# Altium integrated library TI Amplifiers and Linear Operational Amplifier Precision Amplifier Part Two.IntLib: 2300 symbols (part 40 of 81)
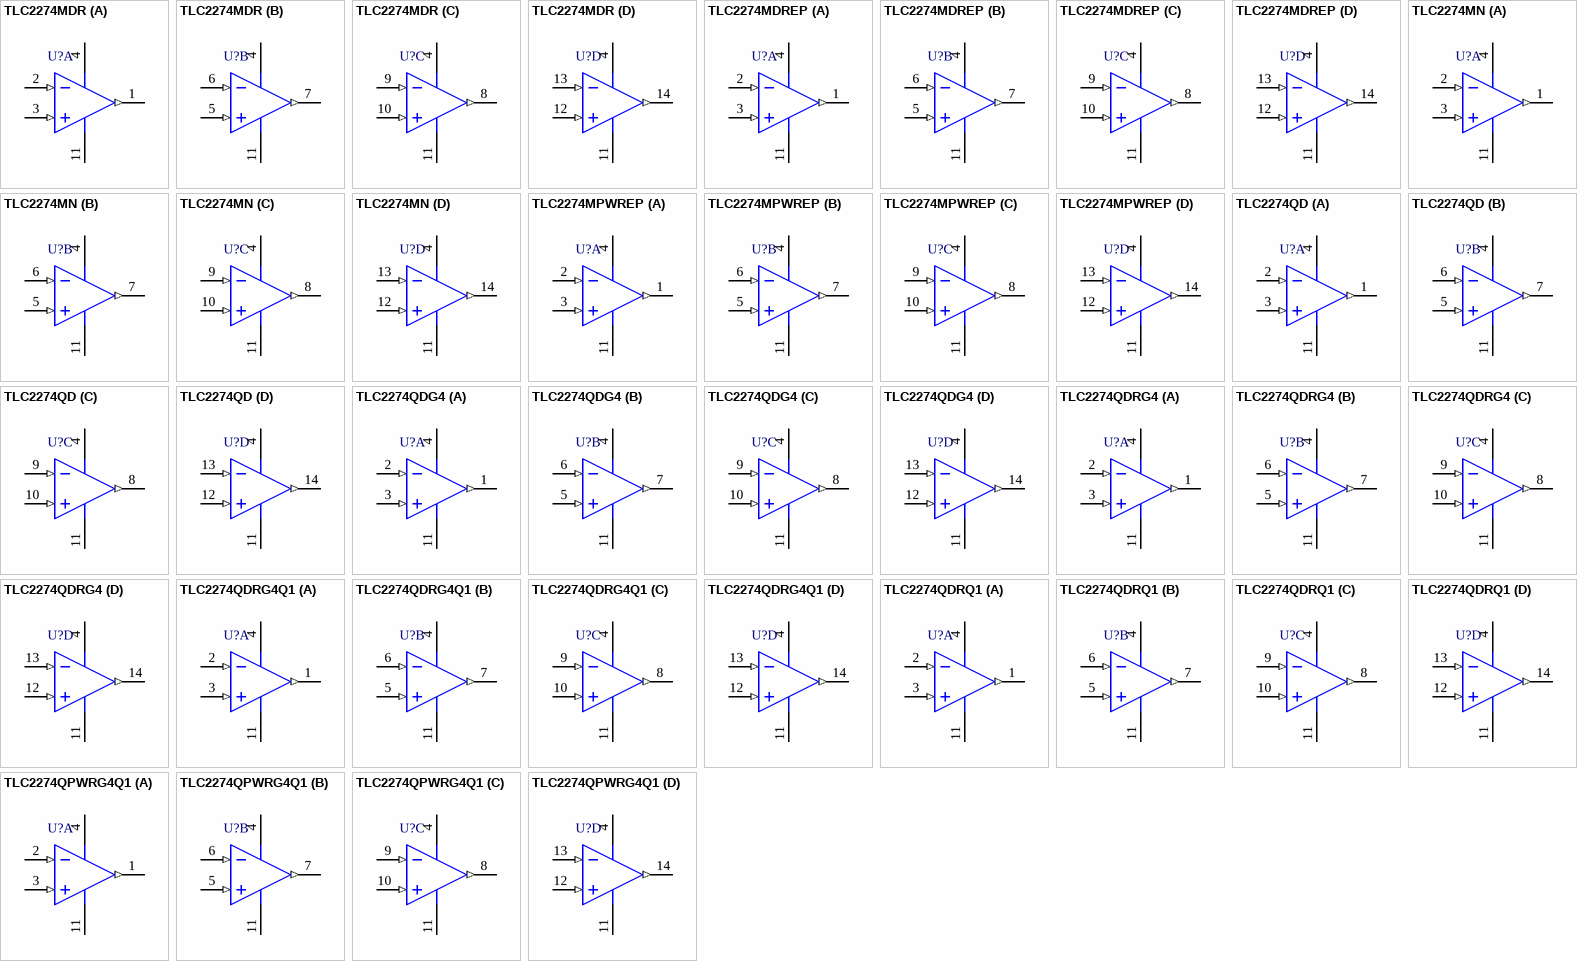
[diagram p175: symbols TLC2274MDR to TLC2274QPWRG4Q1]

## TLC2274QD
designator U?
Quad Low-Noise Rail-to-Rail Operational Amplifier, 4.4 to 16 V, -40 to 125 degC, 14-pin SOIC (D14), Green (RoHS & no Sb/Br); Manufacturer: Texas Instruments; PartNumber: TLC2274QD; CMRR(Min)(dB): 70; GBW(Typ)(MHz): 2.18; IIB(Max)(pA): 60; Iq per channel(Max)(mA): 1.5; Number of Channels: 4; Offset Drift(Typ)(uV/C): 2; Packing: SMALL T&R; Rating: Catalog; Slew Rate(Typ)(V/us): 3.6; Sub Family: Low Noise Amp (<=10nV/rtHz), Precision Amplifier; Total Supply Voltage(Max)(+5V is 5, +/-5V is 10): 16; Total Supply Voltage(Min)(+5V is 5, +/-5V is 10): 4.4; Vio (25C)(Max)(mV): 2.5; DatasheetVersion: SLOS190G; PackageVersion: 4040047-5/M, 06/2011; PackageReference: D14; PackageDescription: 14-Pin Plastic Small Outline, Body 8.65 x 3.9 mm, Pitch 1.27 mm; Supplier 1: Digi-Key; Supplier Part Number 1: 296-7135-5-ND; Supplier 2: Newark; Supplier Part Number 2: 93B2352; Supplier 3: Mouser; Supplier Part Number 3: 595-TLC2274QD; Eco-Plan: Green (RoHS & no Sb/Br); Mounting Technology: Surface Mount; Code_JEDEC: MS-012; ComponentLink1Description: Manufacturer URL; ComponentLink1URL: http://www.ti.com/; ComponentLink2Description: Datasheet; ComponentLink2URL: http://www.ti.com/lit/ds/symlink/tlc2274.pdf; ComponentLink3Description: Package Specification; ComponentLink3URL: http://www.ti.com/lit/ml/mpds177g/mpds177g.pdf
footprint TI-D14_N (SOIC, 14-Leads, Body 8.65x3.9mm, Pitch 1.27mm, IPC Medium Density)
footprint TI-D14_L (SOIC, 14-Leads, Body 8.65x3.9mm, Pitch 1.27mm, IPC High Density)
footprint TI-D14_M (SOIC, 14-Leads, Body 8.65x3.9mm, Pitch 1.27mm, IPC Low Density)
pins on every part: 4 VDD+ (power), 11 VDD- (power)
part A pins: 1 OUT1 (out), 2 IN1- (in), 3 IN1+ (in)
part B pins: 5 IN2+ (in), 6 IN2- (in), 7 OUT2 (out)
part C pins: 8 OUT3 (out), 9 IN3- (in), 10 IN3+ (in)
part D pins: 12 IN4+ (in), 13 IN4- (in), 14 OUT4 (out)

## TLC2274QDG4
designator U?
Quad Low-Noise Rail-to-Rail Operational Amplifier, 4.4 to 16 V, -40 to 125 degC, 14-pin SOIC (D14), Green (RoHS & no Sb/Br); Manufacturer: Texas Instruments; PartNumber: TLC2274QDG4; CMRR(Min)(dB): 70; GBW(Typ)(MHz): 2.18; IIB(Max)(pA): 60; Iq per channel(Max)(mA): 1.5; Number of Channels: 4; Offset Drift(Typ)(uV/C): 2; Packing: SMALL T&R; Rating: Catalog; Slew Rate(Typ)(V/us): 3.6; Sub Family: Low Noise Amp (<=10nV/rtHz), Precision Amplifier; Total Supply Voltage(Max)(+5V is 5, +/-5V is 10): 16; Total Supply Voltage(Min)(+5V is 5, +/-5V is 10): 4.4; Vio (25C)(Max)(mV): 2.5; DatasheetVersion: SLOS190G; PackageVersion: 4040047-5/M, 06/2011; PackageReference: D14; PackageDescription: 14-Pin Plastic Small Outline, Body 8.65 x 3.9 mm, Pitch 1.27 mm; Supplier 1: Digi-Key; Supplier Part Number 1: TLC2274QDG4-ND; Supplier 2: Newark; Supplier Part Number 2: 50M8976; Supplier 3: Mouser; Supplier Part Number 3: 595-TLC2274QDG4; Eco-Plan: Green (RoHS & no Sb/Br); Mounting Technology: Surface Mount; Code_JEDEC: MS-012; ComponentLink1Description: Manufacturer URL; ComponentLink1URL: http://www.ti.com/; ComponentLink2Description: Datasheet; ComponentLink2URL: http://www.ti.com/lit/ds/symlink/tlc2274.pdf; ComponentLink3Description: Package Specification; ComponentLink3URL: http://www.ti.com/lit/ml/mpds177g/mpds177g.pdf
footprint TI-D14_N (SOIC, 14-Leads, Body 8.65x3.9mm, Pitch 1.27mm, IPC Medium Density)
footprint TI-D14_L (SOIC, 14-Leads, Body 8.65x3.9mm, Pitch 1.27mm, IPC High Density)
footprint TI-D14_M (SOIC, 14-Leads, Body 8.65x3.9mm, Pitch 1.27mm, IPC Low Density)
pins on every part: 4 VDD+ (power), 11 VDD- (power)
part A pins: 1 OUT1 (out), 2 IN1- (in), 3 IN1+ (in)
part B pins: 5 IN2+ (in), 6 IN2- (in), 7 OUT2 (out)
part C pins: 8 OUT3 (out), 9 IN3- (in), 10 IN3+ (in)
part D pins: 12 IN4+ (in), 13 IN4- (in), 14 OUT4 (out)

## TLC2274QDRG4
designator U?
Quad Low-Noise Rail-to-Rail Operational Amplifier, 4.4 to 16 V, -40 to 125 degC, 14-pin SOIC (D14), Green (RoHS & no Sb/Br); Manufacturer: Texas Instruments; PartNumber: TLC2274QDRG4; CMRR(Min)(dB): 70; GBW(Typ)(MHz): 2.18; IIB(Max)(pA): 60; Iq per channel(Max)(mA): 1.5; Number of Channels: 4; Offset Drift(Typ)(uV/C): 2; Packing: LARGE T&R; Rating: Catalog; Slew Rate(Typ)(V/us): 3.6; Sub Family: Low Noise Amp (<=10nV/rtHz), Precision Amplifier; Total Supply Voltage(Max)(+5V is 5, +/-5V is 10): 16; Total Supply Voltage(Min)(+5V is 5, +/-5V is 10): 4.4; Vio (25C)(Max)(mV): 2.5; DatasheetVersion: SLOS190G; PackageVersion: 4040047-5/M, 06/2011; PackageReference: D14; PackageDescription: 14-Pin Plastic Small Outline, Body 8.65 x 3.9 mm, Pitch 1.27 mm; Supplier 1: Digi-Key; Supplier Part Number 1: TLC2274QDRG4-ND; Supplier 2: Mouser; Supplier Part Number 2: 595-TLC2274QDRG4; Eco-Plan: Green (RoHS & no Sb/Br); Mounting Technology: Surface Mount; Code_JEDEC: MS-012; ComponentLink1Description: Manufacturer URL; ComponentLink1URL: http://www.ti.com/; ComponentLink2Description: Datasheet; ComponentLink2URL: http://www.ti.com/lit/ds/symlink/tlc2274.pdf; ComponentLink3Description: Package Specification; ComponentLink3URL: http://www.ti.com/lit/ml/mpds177g/mpds177g.pdf
footprint TI-D14_N (SOIC, 14-Leads, Body 8.65x3.9mm, Pitch 1.27mm, IPC Medium Density)
footprint TI-D14_L (SOIC, 14-Leads, Body 8.65x3.9mm, Pitch 1.27mm, IPC High Density)
footprint TI-D14_M (SOIC, 14-Leads, Body 8.65x3.9mm, Pitch 1.27mm, IPC Low Density)
pins on every part: 4 VDD+ (power), 11 VDD- (power)
part A pins: 1 OUT1 (out), 2 IN1- (in), 3 IN1+ (in)
part B pins: 5 IN2+ (in), 6 IN2- (in), 7 OUT2 (out)
part C pins: 8 OUT3 (out), 9 IN3- (in), 10 IN3+ (in)
part D pins: 12 IN4+ (in), 13 IN4- (in), 14 OUT4 (out)

## TLC2274QDRG4Q1
designator U?
Automotive Catalog Advanced LinCMOS(TM) Rail-to-Rail Operational Amplifier, 4.4 to 16 V, -40 to 125 degC, 14-pin SOIC (D14), Green (RoHS & no Sb/Br); Manufacturer: Texas Instruments; PartNumber: TLC2274QDRG4Q1; CMRR(Min)(dB): 70; GBW(Typ)(MHz): 2.18; IIB(Max)(pA): 60; Iq per channel(Max)(mA): 1.5; Number of Channels: 4; Offset Drift(Typ)(uV/C): 2; Packing: LARGE T&R; Slew Rate(Typ)(V/us): 3.6; Sub Family: Low Noise Amp (<=10nV/rtHz), Precision Amplifier; Total Supply Voltage(Max)(+5V is 5, +/-5V is 10): 16; Total Supply Voltage(Min)(+5V is 5, +/-5V is 10): 4.4; Vio (25C)(Max)(mV): 2.5; DatasheetVersion: SGLS007E; PackageVersion: 4040047-5/M, 06/2011; PackageReference: D14; PackageDescription: 14-Pin Plastic Small Outline, Body 8.65 x 3.9 mm, Pitch 1.27 mm; Supplier 1: Digi-Key; Supplier Part Number 1: 296-22546-2-ND; Supplier 2: Digi-Key; Supplier Part Number 2: 296-22546-1-ND; Supplier 3: Digi-Key; Supplier Part Number 3: 296-22546-6-ND; Supplier 4: Newark; Supplier Part Number 4: 54M7312; Supplier 5: Mouser; Supplier Part Number 5: 595-TLC2274QDRG4Q1; Eco-Plan: Green (RoHS & no Sb/Br); Rating: Automotive; Mounting Technology: Surface Mount; Code_JEDEC: MS-012; ComponentLink1Description: Manufacturer URL; ComponentLink1URL: http://www.ti.com/; ComponentLink2Description: Datasheet; ComponentLink2URL: http://www.ti.com/lit/ds/symlink/tlc2274-q1.pdf; ComponentLink3Description: Package Specification; ComponentLink3URL: http://www.ti.com/lit/ml/mpds177g/mpds177g.pdf
footprint TI-D14_N (SOIC, 14-Leads, Body 8.65x3.9mm, Pitch 1.27mm, IPC Medium Density)
footprint TI-D14_L (SOIC, 14-Leads, Body 8.65x3.9mm, Pitch 1.27mm, IPC High Density)
footprint TI-D14_M (SOIC, 14-Leads, Body 8.65x3.9mm, Pitch 1.27mm, IPC Low Density)
pins on every part: 4 VDD+ (power), 11 VDD- (power)
part A pins: 1 OUT1 (out), 2 IN1- (in), 3 IN1+ (in)
part B pins: 5 IN2+ (in), 6 IN2- (in), 7 OUT2 (out)
part C pins: 8 OUT3 (out), 9 IN3- (in), 10 IN3+ (in)
part D pins: 12 IN4+ (in), 13 IN4- (in), 14 OUT4 (out)

## TLC2274QDRQ1
designator U?
Automotive Catalog Advanced LinCMOS(TM) Rail-to-Rail Operational Amplifier, 4.4 to 16 V, -40 to 125 degC, 14-pin SOIC (D14), Green (RoHS & no Sb/Br); Manufacturer: Texas Instruments; PartNumber: TLC2274QDRQ1; CMRR(Min)(dB): 70; GBW(Typ)(MHz): 2.18; IIB(Max)(pA): 60; Iq per channel(Max)(mA): 1.5; Number of Channels: 4; Offset Drift(Typ)(uV/C): 2; Packing: LARGE T&R; Slew Rate(Typ)(V/us): 3.6; Sub Family: Low Noise Amp (<=10nV/rtHz), Precision Amplifier; Total Supply Voltage(Max)(+5V is 5, +/-5V is 10): 16; Total Supply Voltage(Min)(+5V is 5, +/-5V is 10): 4.4; Vio (25C)(Max)(mV): 2.5; DatasheetVersion: SGLS007E; PackageVersion: 4040047-5/M, 06/2011; PackageReference: D14; PackageDescription: 14-Pin Plastic Small Outline, Body 8.65 x 3.9 mm, Pitch 1.27 mm; Supplier 1: Digi-Key; Supplier Part Number 1: 296-16954-2-ND; Supplier 2: Digi-Key; Supplier Part Number 2: 296-16954-1-ND; Supplier 3: Digi-Key; Supplier Part Number 3: 296-16954-6-ND; Supplier 4: Mouser; Supplier Part Number 4: 595-TLC2274QDRQ1; Eco-Plan: Green (RoHS & no Sb/Br); Rating: Automotive; Mounting Technology: Surface Mount; Code_JEDEC: MS-012; ComponentLink1Description: Manufacturer URL; ComponentLink1URL: http://www.ti.com/; ComponentLink2Description: Datasheet; ComponentLink2URL: http://www.ti.com/lit/ds/symlink/tlc2274-q1.pdf; ComponentLink3Description: Package Specification; ComponentLink3URL: http://www.ti.com/lit/ml/mpds177g/mpds177g.pdf
footprint TI-D14_N (SOIC, 14-Leads, Body 8.65x3.9mm, Pitch 1.27mm, IPC Medium Density)
footprint TI-D14_L (SOIC, 14-Leads, Body 8.65x3.9mm, Pitch 1.27mm, IPC High Density)
footprint TI-D14_M (SOIC, 14-Leads, Body 8.65x3.9mm, Pitch 1.27mm, IPC Low Density)
pins on every part: 4 VDD+ (power), 11 VDD- (power)
part A pins: 1 OUT1 (out), 2 IN1- (in), 3 IN1+ (in)
part B pins: 5 IN2+ (in), 6 IN2- (in), 7 OUT2 (out)
part C pins: 8 OUT3 (out), 9 IN3- (in), 10 IN3+ (in)
part D pins: 12 IN4+ (in), 13 IN4- (in), 14 OUT4 (out)

## TLC2274QPWRG4Q1
designator U?
Automotive Catalog Advanced LinCMOS(TM) Rail-to-Rail Operational Amplifier, 4.4 to 16 V, -40 to 125 degC, 14-pin SOP (PW14), Green (RoHS & no Sb/Br); Manufacturer: Texas Instruments; PartNumber: TLC2274QPWRG4Q1; CMRR(Min)(dB): 70; GBW(Typ)(MHz): 2.18; IIB(Max)(pA): 60; Iq per channel(Max)(mA): 1.5; Number of Channels: 4; Offset Drift(Typ)(uV/C): 2; Packing: LARGE T&R; Slew Rate(Typ)(V/us): 3.6; Sub Family: Low Noise Amp (<=10nV/rtHz), Precision Amplifier; Total Supply Voltage(Max)(+5V is 5, +/-5V is 10): 16; Total Supply Voltage(Min)(+5V is 5, +/-5V is 10): 4.4; Vio (25C)(Max)(mV): 2.5; DatasheetVersion: SGLS007E; PackageVersion: 4040064-3/G, 02/2011; PackageReference: PW14; PackageDescription: 14-Pin Plastic Small Outline, Body 5 x 4.4 mm, Pitch 0.65 mm; Supplier 1: Digi-Key; Supplier Part Number 1: 296-24432-2-ND; Supplier 2: Digi-Key; Supplier Part Number 2: 296-24432-1-ND; Supplier 3: Digi-Key; Supplier Part Number 3: 296-24432-6-ND; Supplier 4: Mouser; Supplier Part Number 4: 595-TLC2274QPWRG4Q1; Eco-Plan: Green (RoHS & no Sb/Br); Rating: Automotive; Mounting Technology: Surface Mount; Code_JEDEC: MO-153; ComponentLink1Description: Manufacturer URL; ComponentLink1URL: http://www.ti.com/; ComponentLink2Description: Datasheet; ComponentLink2URL: http://www.ti.com/lit/ds/symlink/tlc2274-q1.pdf; ComponentLink3Description: Package Specification; ComponentLink3URL: http://www.ti.com/litv/pdf/mpds360
footprint TI-PW14_N (SOP, 14-Leads, Body 5x4.4mm, Pitch 0.65mm, IPC Medium Density)
footprint TI-PW14_L (SOP, 14-Leads, Body 5x4.4mm, Pitch 0.65mm, IPC High Density)
footprint TI-PW14_M (SOP, 14-Leads, Body 5x4.4mm, Pitch 0.65mm, IPC Low Density)
pins on every part: 4 VDD+ (power), 11 VDD- (power)
part A pins: 1 OUT1 (out), 2 IN1- (in), 3 IN1+ (in)
part B pins: 5 IN2+ (in), 6 IN2- (in), 7 OUT2 (out)
part C pins: 8 OUT3 (out), 9 IN3- (in), 10 IN3+ (in)
part D pins: 12 IN4+ (in), 13 IN4- (in), 14 OUT4 (out)

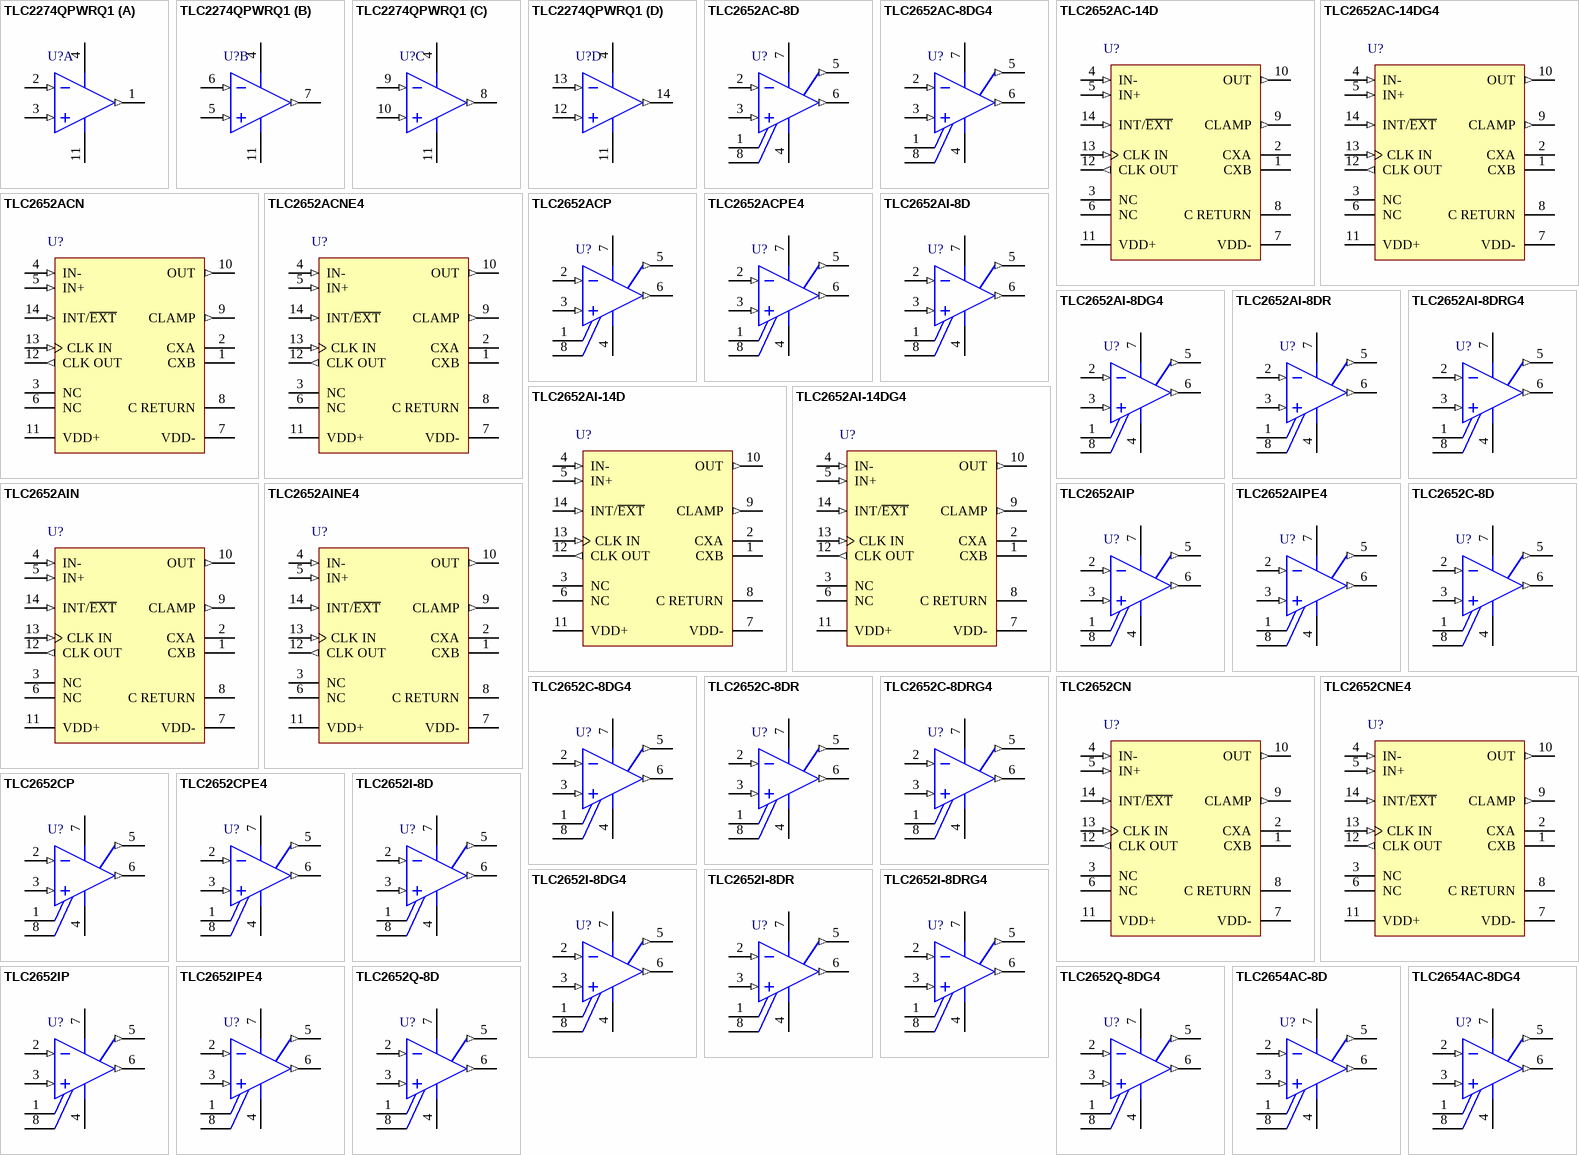
[diagram p70: symbols TLC2274QPWRQ1 to TLC2654AC-8DG4]

## TLC2274QPWRQ1
designator U?
Automotive Catalog Advanced LinCMOS(TM) Rail-to-Rail Operational Amplifier, 4.4 to 16 V, -40 to 125 degC, 14-pin SOP (PW14), Green (RoHS & no Sb/Br); Manufacturer: Texas Instruments; PartNumber: TLC2274QPWRQ1; CMRR(Min)(dB): 70; GBW(Typ)(MHz): 2.18; IIB(Max)(pA): 60; Iq per channel(Max)(mA): 1.5; Number of Channels: 4; Offset Drift(Typ)(uV/C): 2; Packing: LARGE T&R; Slew Rate(Typ)(V/us): 3.6; Sub Family: Low Noise Amp (<=10nV/rtHz), Precision Amplifier; Total Supply Voltage(Max)(+5V is 5, +/-5V is 10): 16; Total Supply Voltage(Min)(+5V is 5, +/-5V is 10): 4.4; Vio (25C)(Max)(mV): 2.5; DatasheetVersion: SGLS007E; PackageVersion: 4040064-3/G, 02/2011; PackageReference: PW14; PackageDescription: 14-Pin Plastic Small Outline, Body 5 x 4.4 mm, Pitch 0.65 mm; Supplier 1: Digi-Key; Supplier Part Number 1: 296-16955-2-ND; Supplier 2: Digi-Key; Supplier Part Number 2: 296-16955-1-ND; Supplier 3: Digi-Key; Supplier Part Number 3: 296-16955-6-ND; Supplier 4: Mouser; Supplier Part Number 4: 595-TLC2274QPWRQ1; Eco-Plan: Green (RoHS & no Sb/Br); Rating: Automotive; Mounting Technology: Surface Mount; Code_JEDEC: MO-153; ComponentLink1Description: Manufacturer URL; ComponentLink1URL: http://www.ti.com/; ComponentLink2Description: Datasheet; ComponentLink2URL: http://www.ti.com/lit/ds/symlink/tlc2274-q1.pdf; ComponentLink3Description: Package Specification; ComponentLink3URL: http://www.ti.com/litv/pdf/mpds360
footprint TI-PW14_N (SOP, 14-Leads, Body 5x4.4mm, Pitch 0.65mm, IPC Medium Density)
footprint TI-PW14_L (SOP, 14-Leads, Body 5x4.4mm, Pitch 0.65mm, IPC High Density)
footprint TI-PW14_M (SOP, 14-Leads, Body 5x4.4mm, Pitch 0.65mm, IPC Low Density)
pins on every part: 4 VDD+ (power), 11 VDD- (power)
part A pins: 1 OUT1 (out), 2 IN1- (in), 3 IN1+ (in)
part B pins: 5 IN2+ (in), 6 IN2- (in), 7 OUT2 (out)
part C pins: 8 OUT3 (out), 9 IN3- (in), 10 IN3+ (in)
part D pins: 12 IN4+ (in), 13 IN4- (in), 14 OUT4 (out)

## TLC2652AC-8D
designator U?
Advanced LinCMOS(TM) Precision Chopper-Stabilized Operational Amplifier, 3.8 to 16 V, 0 to 70 degC, 8-pin SOIC (D8), Green (RoHS & no Sb/Br); Manufacturer: Texas Instruments; PartNumber: TLC2652AC-8D; CMRR(Min)(dB): 120; GBW(Typ)(MHz): 1.9; IIB(Max)(pA): 60; Iq per channel(Max)(mA): 2.4; Number of Channels: 1; Offset Drift(Typ)(uV/C): 0.003; Packing: TUBE; Rating: Catalog; Slew Rate(Typ)(V/us): 2.8; Sub Family: Low Offset Voltage Amplifier (<=500uV), Precision Amplifier; Total Supply Voltage(Max)(+5V is 5, +/-5V is 10): 16; Total Supply Voltage(Min)(+5V is 5, +/-5V is 10): 3.8; Vio (25C)(Max)(mV): 0.001; DatasheetVersion: SLOS019E; PackageVersion: 4040047-3/M, 06/2011; PackageReference: D8; PackageDescription: 8-Pin Plastic Small Outline, Body 4.9 x 3.9 mm, Pitch 1.27 mm; Supplier 1: Digi-Key; Supplier Part Number 1: 296-7316-5-ND; Supplier 2: Farnell; Supplier Part Number 2: 8454124; Supplier 3: Newark; Supplier Part Number 3: 38K8337; Supplier 4: Newark; Supplier Part Number 4: 76C7037; Supplier 5: Mouser; Supplier Part Number 5: 595-TLC2652AC-8D; Eco-Plan: Green (RoHS & no Sb/Br); Mounting Technology: Surface Mount; Code_JEDEC: MS-012; ComponentLink1Description: Manufacturer URL; ComponentLink1URL: http://www.ti.com/; ComponentLink2Description: Datasheet; ComponentLink2URL: http://www.ti.com/lit/ds/symlink/tlc2652a.pdf; ComponentLink3Description: Package Specification; ComponentLink3URL: http://www.ti.com/litv/pdf/msoi002j
footprint TI-D8_N (SOIC, 8-Leads, Body 4.9x3.9mm, Pitch 1.27mm, IPC Medium Density)
footprint TI-D8_L (SOIC, 8-Leads, Body 4.9x3.9mm, Pitch 1.27mm, IPC High Density)
footprint TI-D8_M (SOIC, 8-Leads, Body 4.9x3.9mm, Pitch 1.27mm, IPC Low Density)
pins: 1 CXA, 2 IN- (in), 3 IN+ (in), 4 VDD- (power), 5 CLAMP (out), 6 OUT (out), 7 VDD+ (power), 8 CXB

## TLC2652AC-8DG4
designator U?
Advanced LinCMOS(TM) Precision Chopper-Stabilized Operational Amplifier, 3.8 to 16 V, 0 to 70 degC, 8-pin SOIC (D8), Green (RoHS & no Sb/Br); Manufacturer: Texas Instruments; PartNumber: TLC2652AC-8DG4; CMRR(Min)(dB): 120; GBW(Typ)(MHz): 1.9; IIB(Max)(pA): 60; Iq per channel(Max)(mA): 2.4; Number of Channels: 1; Offset Drift(Typ)(uV/C): 0.003; Packing: TUBE; Rating: Catalog; Slew Rate(Typ)(V/us): 2.8; Sub Family: Low Offset Voltage Amplifier (<=500uV), Precision Amplifier; Total Supply Voltage(Max)(+5V is 5, +/-5V is 10): 16; Total Supply Voltage(Min)(+5V is 5, +/-5V is 10): 3.8; Vio (25C)(Max)(mV): 0.001; DatasheetVersion: SLOS019E; PackageVersion: 4040047-3/M, 06/2011; PackageReference: D8; PackageDescription: 8-Pin Plastic Small Outline, Body 4.9 x 3.9 mm, Pitch 1.27 mm; Supplier 1: Digi-Key; Supplier Part Number 1: TLC2652AC-8DG4-ND; Supplier 2: Mouser; Supplier Part Number 2: 595-TLC2652AC-8DG4; Eco-Plan: Green (RoHS & no Sb/Br); Mounting Technology: Surface Mount; Code_JEDEC: MS-012; ComponentLink1Description: Manufacturer URL; ComponentLink1URL: http://www.ti.com/; ComponentLink2Description: Datasheet; ComponentLink2URL: http://www.ti.com/lit/ds/symlink/tlc2652a.pdf; ComponentLink3Description: Package Specification; ComponentLink3URL: http://www.ti.com/litv/pdf/msoi002j
footprint TI-D8_N (SOIC, 8-Leads, Body 4.9x3.9mm, Pitch 1.27mm, IPC Medium Density)
footprint TI-D8_L (SOIC, 8-Leads, Body 4.9x3.9mm, Pitch 1.27mm, IPC High Density)
footprint TI-D8_M (SOIC, 8-Leads, Body 4.9x3.9mm, Pitch 1.27mm, IPC Low Density)
pins: 1 CXA, 2 IN- (in), 3 IN+ (in), 4 VDD- (power), 5 CLAMP (out), 6 OUT (out), 7 VDD+ (power), 8 CXB

## TLC2652AC-14D
designator U?
Advanced LinCMOS(TM) Precision Chopper-Stabilized Operational Amplifier, 3.8 to 16 V, 0 to 70 degC, 14-pin SOIC (D14), Green (RoHS & no Sb/Br); Manufacturer: Texas Instruments; PartNumber: TLC2652AC-14D; CMRR(Min)(dB): 120; GBW(Typ)(MHz): 1.9; IIB(Max)(pA): 60; Iq per channel(Max)(mA): 2.4; Number of Channels: 1; Offset Drift(Typ)(uV/C): 0.003; Packing: TUBE; Rating: Catalog; Slew Rate(Typ)(V/us): 2.8; Sub Family: Low Offset Voltage Amplifier (<=500uV), Precision Amplifier; Total Supply Voltage(Max)(+5V is 5, +/-5V is 10): 16; Total Supply Voltage(Min)(+5V is 5, +/-5V is 10): 3.8; Vio (25C)(Max)(mV): 0.001; DatasheetVersion: SLOS019E; PackageVersion: 4040047-5/M, 06/2011; PackageReference: D14; PackageDescription: 14-Pin Plastic Small Outline, Body 8.65 x 3.9 mm, Pitch 1.27 mm; Supplier 1: Digi-Key; Supplier Part Number 1: 296-7315-5-ND; Supplier 2: Mouser; Supplier Part Number 2: 595-TLC2652AC-14D; Eco-Plan: Green (RoHS & no Sb/Br); Mounting Technology: Surface Mount; Code_JEDEC: MS-012; ComponentLink1Description: Manufacturer URL; ComponentLink1URL: http://www.ti.com/; ComponentLink2Description: Datasheet; ComponentLink2URL: http://www.ti.com/lit/ds/symlink/tlc2652a.pdf; ComponentLink3Description: Package Specification; ComponentLink3URL: http://www.ti.com/lit/ml/mpds177g/mpds177g.pdf
footprint TI-D14_N (SOIC, 14-Leads, Body 8.65x3.9mm, Pitch 1.27mm, IPC Medium Density)
footprint TI-D14_L (SOIC, 14-Leads, Body 8.65x3.9mm, Pitch 1.27mm, IPC High Density)
footprint TI-D14_M (SOIC, 14-Leads, Body 8.65x3.9mm, Pitch 1.27mm, IPC Low Density)
pins: 1 CXB, 2 CXA, 3 NC, 4 IN- (in), 5 IN+ (in), 6 NC, 7 VDD- (power), 8 C RETURN (power), 9 CLAMP (out), 10 OUT (out), 11 VDD+ (power), 12 CLK OUT (out), 13 CLK IN (in), 14 INT/~{EXT} (in)

## TLC2652AC-14DG4
designator U?
Advanced LinCMOS(TM) Precision Chopper-Stabilized Operational Amplifier, 3.8 to 16 V, 0 to 70 degC, 14-pin SOIC (D14), Green (RoHS & no Sb/Br); Manufacturer: Texas Instruments; PartNumber: TLC2652AC-14DG4; CMRR(Min)(dB): 120; GBW(Typ)(MHz): 1.9; IIB(Max)(pA): 60; Iq per channel(Max)(mA): 2.4; Number of Channels: 1; Offset Drift(Typ)(uV/C): 0.003; Packing: TUBE; Rating: Catalog; Slew Rate(Typ)(V/us): 2.8; Sub Family: Low Offset Voltage Amplifier (<=500uV), Precision Amplifier; Total Supply Voltage(Max)(+5V is 5, +/-5V is 10): 16; Total Supply Voltage(Min)(+5V is 5, +/-5V is 10): 3.8; Vio (25C)(Max)(mV): 0.001; DatasheetVersion: SLOS019E; PackageVersion: 4040047-5/M, 06/2011; PackageReference: D14; PackageDescription: 14-Pin Plastic Small Outline, Body 8.65 x 3.9 mm, Pitch 1.27 mm; Supplier 1: Digi-Key; Supplier Part Number 1: TLC2652AC-14DG4-ND; Supplier 2: Mouser; Supplier Part Number 2: 595-TLC2652AC-14DG4; Eco-Plan: Green (RoHS & no Sb/Br); Mounting Technology: Surface Mount; Code_JEDEC: MS-012; ComponentLink1Description: Manufacturer URL; ComponentLink1URL: http://www.ti.com/; ComponentLink2Description: Datasheet; ComponentLink2URL: http://www.ti.com/lit/ds/symlink/tlc2652a.pdf; ComponentLink3Description: Package Specification; ComponentLink3URL: http://www.ti.com/lit/ml/mpds177g/mpds177g.pdf
footprint TI-D14_N (SOIC, 14-Leads, Body 8.65x3.9mm, Pitch 1.27mm, IPC Medium Density)
footprint TI-D14_L (SOIC, 14-Leads, Body 8.65x3.9mm, Pitch 1.27mm, IPC High Density)
footprint TI-D14_M (SOIC, 14-Leads, Body 8.65x3.9mm, Pitch 1.27mm, IPC Low Density)
pins: 1 CXB, 2 CXA, 3 NC, 4 IN- (in), 5 IN+ (in), 6 NC, 7 VDD- (power), 8 C RETURN (power), 9 CLAMP (out), 10 OUT (out), 11 VDD+ (power), 12 CLK OUT (out), 13 CLK IN (in), 14 INT/~{EXT} (in)

## TLC2652ACN
designator U?
Advanced LinCMOS(TM) Precision Chopper-Stabilized Operational Amplifier, 3.8 to 16 V, 0 to 70 degC, 14-pin DIP (N14), Pb-Free (RoHS); Manufacturer: Texas Instruments; PartNumber: TLC2652ACN; CMRR(Min)(dB): 120; GBW(Typ)(MHz): 1.9; IIB(Max)(pA): 60; Iq per channel(Max)(mA): 2.4; Number of Channels: 1; Offset Drift(Typ)(uV/C): 0.003; Packing: TUBE; Rating: Catalog; Slew Rate(Typ)(V/us): 2.8; Sub Family: Low Offset Voltage Amplifier (<=500uV), Precision Amplifier; Total Supply Voltage(Max)(+5V is 5, +/-5V is 10): 16; Total Supply Voltage(Min)(+5V is 5, +/-5V is 10): 3.8; Vio (25C)(Max)(mV): 0.001; DatasheetVersion: SLOS019E; PackageVersion: 4040049/E, 12/2002; PackageReference: N14; PackageDescription: 14-Pin Plastic In-Line, Body 19.305 x 6.35 mm, Pitch 2.54 mm; Supplier 1: Digi-Key; Supplier Part Number 1: 296-7317-5-ND; Supplier 2: Newark; Supplier Part Number 2: 08F9047; Supplier 3: Mouser; Supplier Part Number 3: 595-TLC2652ACN; Eco-Plan: Pb-Free (RoHS); Mounting Technology: Through Hole; Code_JEDEC: MS-001; ComponentLink1Description: Manufacturer URL; ComponentLink1URL: http://www.ti.com/; ComponentLink2Description: Datasheet; ComponentLink2URL: http://www.ti.com/lit/ds/symlink/tlc2652a.pdf; ComponentLink3Description: Package Specification; ComponentLink3URL: http://www.ti.com/lit/ml/mpdi002c/mpdi002c.pdf
footprint TI-N14 (DIP, 14-Leads, Body 19.305x6.35 mm, Pitch 2.54 mm)
pins: 1 CXB, 2 CXA, 3 NC, 4 IN- (in), 5 IN+ (in), 6 NC, 7 VDD- (power), 8 C RETURN (power), 9 CLAMP (out), 10 OUT (out), 11 VDD+ (power), 12 CLK OUT (out), 13 CLK IN (in), 14 INT/~{EXT} (in)

## TLC2652ACNE4
designator U?
Advanced LinCMOS(TM) Precision Chopper-Stabilized Operational Amplifier, 3.8 to 16 V, 0 to 70 degC, 14-pin DIP (N14), Pb-Free (RoHS); Manufacturer: Texas Instruments; PartNumber: TLC2652ACNE4; CMRR(Min)(dB): 120; GBW(Typ)(MHz): 1.9; IIB(Max)(pA): 60; Iq per channel(Max)(mA): 2.4; Number of Channels: 1; Offset Drift(Typ)(uV/C): 0.003; Packing: TUBE; Rating: Catalog; Slew Rate(Typ)(V/us): 2.8; Sub Family: Low Offset Voltage Amplifier (<=500uV), Precision Amplifier; Total Supply Voltage(Max)(+5V is 5, +/-5V is 10): 16; Total Supply Voltage(Min)(+5V is 5, +/-5V is 10): 3.8; Vio (25C)(Max)(mV): 0.001; DatasheetVersion: SLOS019E; PackageVersion: 4040049/E, 12/2002; PackageReference: N14; PackageDescription: 14-Pin Plastic In-Line, Body 19.305 x 6.35 mm, Pitch 2.54 mm; Supplier 1: Digi-Key; Supplier Part Number 1: TLC2652ACNE4-ND; Supplier 2: Mouser; Supplier Part Number 2: 595-TLC2652ACNE4; Eco-Plan: Pb-Free (RoHS); Mounting Technology: Through Hole; Code_JEDEC: MS-001; ComponentLink1Description: Manufacturer URL; ComponentLink1URL: http://www.ti.com/; ComponentLink2Description: Datasheet; ComponentLink2URL: http://www.ti.com/lit/ds/symlink/tlc2652a.pdf; ComponentLink3Description: Package Specification; ComponentLink3URL: http://www.ti.com/lit/ml/mpdi002c/mpdi002c.pdf
footprint TI-N14 (DIP, 14-Leads, Body 19.305x6.35 mm, Pitch 2.54 mm)
pins: 1 CXB, 2 CXA, 3 NC, 4 IN- (in), 5 IN+ (in), 6 NC, 7 VDD- (power), 8 C RETURN (power), 9 CLAMP (out), 10 OUT (out), 11 VDD+ (power), 12 CLK OUT (out), 13 CLK IN (in), 14 INT/~{EXT} (in)

## TLC2652ACP
designator U?
Advanced LinCMOS(TM) Precision Chopper-Stabilized Operational Amplifier, 3.8 to 16 V, 0 to 70 degC, 8-pin DIP (P8), Pb-Free (RoHS); Manufacturer: Texas Instruments; PartNumber: TLC2652ACP; CMRR(Min)(dB): 120; GBW(Typ)(MHz): 1.9; IIB(Max)(pA): 60; Iq per channel(Max)(mA): 2.4; Number of Channels: 1; Offset Drift(Typ)(uV/C): 0.003; Packing: TUBE; Rating: Catalog; Slew Rate(Typ)(V/us): 2.8; Sub Family: Low Offset Voltage Amplifier (<=500uV), Precision Amplifier; Total Supply Voltage(Max)(+5V is 5, +/-5V is 10): 16; Total Supply Voltage(Min)(+5V is 5, +/-5V is 10): 3.8; Vio (25C)(Max)(mV): 0.001; DatasheetVersion: SLOS019E; PackageVersion: 4040082/E, 04/2010; PackageReference: P8; PackageDescription: 8-Pin Plastic In-Line, Body 9.59 x 6.35 mm, Pitch 2.54 mm; Supplier 1: Digi-Key; Supplier Part Number 1: 296-7318-5-ND; Supplier 2: Farnell; Supplier Part Number 2: 8454132; Supplier 3: Newark; Supplier Part Number 3: 35K1189; Supplier 4: Mouser; Supplier Part Number 4: 595-TLC2652ACP; Eco-Plan: Pb-Free (RoHS); Mounting Technology: Through Hole; Code_JEDEC: MS-001; ComponentLink1Description: Manufacturer URL; ComponentLink1URL: http://www.ti.com/; ComponentLink2Description: Datasheet; ComponentLink2URL: http://www.ti.com/lit/ds/symlink/tlc2652a.pdf; ComponentLink3Description: Package Specification; ComponentLink3URL: http://www.ti.com/litv/pdf/mpdi001b
footprint TI-P8 (DIP, 8-Leads, Body 9.59x6.35mm, Pitch 2.54mm)
pins: 1 CXA, 2 IN- (in), 3 IN+ (in), 4 VDD- (power), 5 CLAMP (out), 6 OUT (out), 7 VDD+ (power), 8 CXB

## TLC2652ACPE4
designator U?
Advanced LinCMOS(TM) Precision Chopper-Stabilized Operational Amplifier, 3.8 to 16 V, 0 to 70 degC, 8-pin DIP (P8), Pb-Free (RoHS); Manufacturer: Texas Instruments; PartNumber: TLC2652ACPE4; CMRR(Min)(dB): 120; GBW(Typ)(MHz): 1.9; IIB(Max)(pA): 60; Iq per channel(Max)(mA): 2.4; Number of Channels: 1; Offset Drift(Typ)(uV/C): 0.003; Packing: TUBE; Rating: Catalog; Slew Rate(Typ)(V/us): 2.8; Sub Family: Low Offset Voltage Amplifier (<=500uV), Precision Amplifier; Total Supply Voltage(Max)(+5V is 5, +/-5V is 10): 16; Total Supply Voltage(Min)(+5V is 5, +/-5V is 10): 3.8; Vio (25C)(Max)(mV): 0.001; DatasheetVersion: SLOS019E; PackageVersion: 4040082/E, 04/2010; PackageReference: P8; PackageDescription: 8-Pin Plastic In-Line, Body 9.59 x 6.35 mm, Pitch 2.54 mm; Supplier 1: Digi-Key; Supplier Part Number 1: TLC2652ACPE4-ND; Supplier 2: Mouser; Supplier Part Number 2: 595-TLC2652ACPE4; Eco-Plan: Pb-Free (RoHS); Mounting Technology: Through Hole; Code_JEDEC: MS-001; ComponentLink1Description: Manufacturer URL; ComponentLink1URL: http://www.ti.com/; ComponentLink2Description: Datasheet; ComponentLink2URL: http://www.ti.com/lit/ds/symlink/tlc2652a.pdf; ComponentLink3Description: Package Specification; ComponentLink3URL: http://www.ti.com/litv/pdf/mpdi001b
footprint TI-P8 (DIP, 8-Leads, Body 9.59x6.35mm, Pitch 2.54mm)
pins: 1 CXA, 2 IN- (in), 3 IN+ (in), 4 VDD- (power), 5 CLAMP (out), 6 OUT (out), 7 VDD+ (power), 8 CXB

## TLC2652AI-8D
designator U?
Advanced LinCMOS(TM) Precision Chopper-Stabilized Operational Amplifier, 3.8 to 16 V, -40 to 85 degC, 8-pin SOIC (D8), Green (RoHS & no Sb/Br); Manufacturer: Texas Instruments; PartNumber: TLC2652AI-8D; CMRR(Min)(dB): 120; GBW(Typ)(MHz): 1.9; IIB(Max)(pA): 60; Iq per channel(Max)(mA): 2.4; Number of Channels: 1; Offset Drift(Typ)(uV/C): 0.003; Packing: TUBE; Rating: Catalog; Slew Rate(Typ)(V/us): 2.8; Sub Family: Low Offset Voltage Amplifier (<=500uV), Precision Amplifier; Total Supply Voltage(Max)(+5V is 5, +/-5V is 10): 16; Total Supply Voltage(Min)(+5V is 5, +/-5V is 10): 3.8; Vio (25C)(Max)(mV): 0.001; DatasheetVersion: SLOS019E; PackageVersion: 4040047-3/M, 06/2011; PackageReference: D8; PackageDescription: 8-Pin Plastic Small Outline, Body 4.9 x 3.9 mm, Pitch 1.27 mm; Supplier 1: Digi-Key; Supplier Part Number 1: 296-7319-5-ND; Supplier 2: Newark; Supplier Part Number 2: 51B1289; Supplier 3: Mouser; Supplier Part Number 3: 595-TLC2652AI-8D; Eco-Plan: Green (RoHS & no Sb/Br); Mounting Technology: Surface Mount; Code_JEDEC: MS-012; ComponentLink1Description: Manufacturer URL; ComponentLink1URL: http://www.ti.com/; ComponentLink2Description: Datasheet; ComponentLink2URL: http://www.ti.com/lit/ds/symlink/tlc2652a.pdf; ComponentLink3Description: Package Specification; ComponentLink3URL: http://www.ti.com/litv/pdf/msoi002j
footprint TI-D8_N (SOIC, 8-Leads, Body 4.9x3.9mm, Pitch 1.27mm, IPC Medium Density)
footprint TI-D8_L (SOIC, 8-Leads, Body 4.9x3.9mm, Pitch 1.27mm, IPC High Density)
footprint TI-D8_M (SOIC, 8-Leads, Body 4.9x3.9mm, Pitch 1.27mm, IPC Low Density)
pins: 1 CXA, 2 IN- (in), 3 IN+ (in), 4 VDD- (power), 5 CLAMP (out), 6 OUT (out), 7 VDD+ (power), 8 CXB

## TLC2652AI-8DG4
designator U?
Advanced LinCMOS(TM) Precision Chopper-Stabilized Operational Amplifier, 3.8 to 16 V, -40 to 85 degC, 8-pin SOIC (D8), Green (RoHS & no Sb/Br); Manufacturer: Texas Instruments; PartNumber: TLC2652AI-8DG4; CMRR(Min)(dB): 120; GBW(Typ)(MHz): 1.9; IIB(Max)(pA): 60; Iq per channel(Max)(mA): 2.4; Number of Channels: 1; Offset Drift(Typ)(uV/C): 0.003; Packing: TUBE; Rating: Catalog; Slew Rate(Typ)(V/us): 2.8; Sub Family: Low Offset Voltage Amplifier (<=500uV), Precision Amplifier; Total Supply Voltage(Max)(+5V is 5, +/-5V is 10): 16; Total Supply Voltage(Min)(+5V is 5, +/-5V is 10): 3.8; Vio (25C)(Max)(mV): 0.001; DatasheetVersion: SLOS019E; PackageVersion: 4040047-3/M, 06/2011; PackageReference: D8; PackageDescription: 8-Pin Plastic Small Outline, Body 4.9 x 3.9 mm, Pitch 1.27 mm; Supplier 1: Digi-Key; Supplier Part Number 1: TLC2652AI-8DG4-ND; Supplier 2: Mouser; Supplier Part Number 2: 595-TLC2652AI-8DG4; Eco-Plan: Green (RoHS & no Sb/Br); Mounting Technology: Surface Mount; Code_JEDEC: MS-012; ComponentLink1Description: Manufacturer URL; ComponentLink1URL: http://www.ti.com/; ComponentLink2Description: Datasheet; ComponentLink2URL: http://www.ti.com/lit/ds/symlink/tlc2652a.pdf; ComponentLink3Description: Package Specification; ComponentLink3URL: http://www.ti.com/litv/pdf/msoi002j
footprint TI-D8_N (SOIC, 8-Leads, Body 4.9x3.9mm, Pitch 1.27mm, IPC Medium Density)
footprint TI-D8_L (SOIC, 8-Leads, Body 4.9x3.9mm, Pitch 1.27mm, IPC High Density)
footprint TI-D8_M (SOIC, 8-Leads, Body 4.9x3.9mm, Pitch 1.27mm, IPC Low Density)
pins: 1 CXA, 2 IN- (in), 3 IN+ (in), 4 VDD- (power), 5 CLAMP (out), 6 OUT (out), 7 VDD+ (power), 8 CXB

## TLC2652AI-8DR
designator U?
Advanced LinCMOS(TM) Precision Chopper-Stabilized Operational Amplifier, 3.8 to 16 V, -40 to 85 degC, 8-pin SOIC (D8), Green (RoHS & no Sb/Br); Manufacturer: Texas Instruments; PartNumber: TLC2652AI-8DR; CMRR(Min)(dB): 120; GBW(Typ)(MHz): 1.9; IIB(Max)(pA): 60; Iq per channel(Max)(mA): 2.4; Number of Channels: 1; Offset Drift(Typ)(uV/C): 0.003; Packing: LARGE T&R; Rating: Catalog; Slew Rate(Typ)(V/us): 2.8; Sub Family: Low Offset Voltage Amplifier (<=500uV), Precision Amplifier; Total Supply Voltage(Max)(+5V is 5, +/-5V is 10): 16; Total Supply Voltage(Min)(+5V is 5, +/-5V is 10): 3.8; Vio (25C)(Max)(mV): 0.001; DatasheetVersion: SLOS019E; PackageVersion: 4040047-3/M, 06/2011; PackageReference: D8; PackageDescription: 8-Pin Plastic Small Outline, Body 4.9 x 3.9 mm, Pitch 1.27 mm; Supplier 1: Digi-Key; Supplier Part Number 1: TLC2652AI-8DR-ND; Supplier 2: Mouser; Supplier Part Number 2: 595-TLC2652AI-8DR; Eco-Plan: Green (RoHS & no Sb/Br); Mounting Technology: Surface Mount; Code_JEDEC: MS-012; ComponentLink1Description: Manufacturer URL; ComponentLink1URL: http://www.ti.com/; ComponentLink2Description: Datasheet; ComponentLink2URL: http://www.ti.com/lit/ds/symlink/tlc2652a.pdf; ComponentLink3Description: Package Specification; ComponentLink3URL: http://www.ti.com/litv/pdf/msoi002j
footprint TI-D8_N (SOIC, 8-Leads, Body 4.9x3.9mm, Pitch 1.27mm, IPC Medium Density)
footprint TI-D8_L (SOIC, 8-Leads, Body 4.9x3.9mm, Pitch 1.27mm, IPC High Density)
footprint TI-D8_M (SOIC, 8-Leads, Body 4.9x3.9mm, Pitch 1.27mm, IPC Low Density)
pins: 1 CXA, 2 IN- (in), 3 IN+ (in), 4 VDD- (power), 5 CLAMP (out), 6 OUT (out), 7 VDD+ (power), 8 CXB

## TLC2652AI-8DRG4
designator U?
Advanced LinCMOS(TM) Precision Chopper-Stabilized Operational Amplifier, 3.8 to 16 V, -40 to 85 degC, 8-pin SOIC (D8), Green (RoHS & no Sb/Br); Manufacturer: Texas Instruments; PartNumber: TLC2652AI-8DRG4; CMRR(Min)(dB): 120; GBW(Typ)(MHz): 1.9; IIB(Max)(pA): 60; Iq per channel(Max)(mA): 2.4; Number of Channels: 1; Offset Drift(Typ)(uV/C): 0.003; Packing: LARGE T&R; Rating: Catalog; Slew Rate(Typ)(V/us): 2.8; Sub Family: Low Offset Voltage Amplifier (<=500uV), Precision Amplifier; Total Supply Voltage(Max)(+5V is 5, +/-5V is 10): 16; Total Supply Voltage(Min)(+5V is 5, +/-5V is 10): 3.8; Vio (25C)(Max)(mV): 0.001; DatasheetVersion: SLOS019E; PackageVersion: 4040047-3/M, 06/2011; PackageReference: D8; PackageDescription: 8-Pin Plastic Small Outline, Body 4.9 x 3.9 mm, Pitch 1.27 mm; Supplier 1: Digi-Key; Supplier Part Number 1: TLC2652AI-8DRG4-ND; Supplier 2: Mouser; Supplier Part Number 2: 595-TLC2652AI-8DRG4; Eco-Plan: Green (RoHS & no Sb/Br); Mounting Technology: Surface Mount; Code_JEDEC: MS-012; ComponentLink1Description: Manufacturer URL; ComponentLink1URL: http://www.ti.com/; ComponentLink2Description: Datasheet; ComponentLink2URL: http://www.ti.com/lit/ds/symlink/tlc2652a.pdf; ComponentLink3Description: Package Specification; ComponentLink3URL: http://www.ti.com/litv/pdf/msoi002j
footprint TI-D8_N (SOIC, 8-Leads, Body 4.9x3.9mm, Pitch 1.27mm, IPC Medium Density)
footprint TI-D8_L (SOIC, 8-Leads, Body 4.9x3.9mm, Pitch 1.27mm, IPC High Density)
footprint TI-D8_M (SOIC, 8-Leads, Body 4.9x3.9mm, Pitch 1.27mm, IPC Low Density)
pins: 1 CXA, 2 IN- (in), 3 IN+ (in), 4 VDD- (power), 5 CLAMP (out), 6 OUT (out), 7 VDD+ (power), 8 CXB

## TLC2652AI-14D
designator U?
Advanced LinCMOS(TM) Precision Chopper-Stabilized Operational Amplifier, 3.8 to 16 V, -40 to 85 degC, 14-pin SOIC (D14), Green (RoHS & no Sb/Br); Manufacturer: Texas Instruments; PartNumber: TLC2652AI-14D; CMRR(Min)(dB): 120; GBW(Typ)(MHz): 1.9; IIB(Max)(pA): 60; Iq per channel(Max)(mA): 2.4; Number of Channels: 1; Offset Drift(Typ)(uV/C): 0.003; Packing: TUBE; Rating: Catalog; Slew Rate(Typ)(V/us): 2.8; Sub Family: Low Offset Voltage Amplifier (<=500uV), Precision Amplifier; Total Supply Voltage(Max)(+5V is 5, +/-5V is 10): 16; Total Supply Voltage(Min)(+5V is 5, +/-5V is 10): 3.8; Vio (25C)(Max)(mV): 0.001; DatasheetVersion: SLOS019E; PackageVersion: 4040047-5/M, 06/2011; PackageReference: D14; PackageDescription: 14-Pin Plastic Small Outline, Body 8.65 x 3.9 mm, Pitch 1.27 mm; Supplier 1: Digi-Key; Supplier Part Number 1: 296-34346-5-ND; Supplier 2: Mouser; Supplier Part Number 2: 595-TLC2652AI-14D; Eco-Plan: Green (RoHS & no Sb/Br); Mounting Technology: Surface Mount; Code_JEDEC: MS-012; ComponentLink1Description: Manufacturer URL; ComponentLink1URL: http://www.ti.com/; ComponentLink2Description: Datasheet; ComponentLink2URL: http://www.ti.com/lit/ds/symlink/tlc2652a.pdf; ComponentLink3Description: Package Specification; ComponentLink3URL: http://www.ti.com/lit/ml/mpds177g/mpds177g.pdf
footprint TI-D14_N (SOIC, 14-Leads, Body 8.65x3.9mm, Pitch 1.27mm, IPC Medium Density)
footprint TI-D14_L (SOIC, 14-Leads, Body 8.65x3.9mm, Pitch 1.27mm, IPC High Density)
footprint TI-D14_M (SOIC, 14-Leads, Body 8.65x3.9mm, Pitch 1.27mm, IPC Low Density)
pins: 1 CXB, 2 CXA, 3 NC, 4 IN- (in), 5 IN+ (in), 6 NC, 7 VDD- (power), 8 C RETURN (power), 9 CLAMP (out), 10 OUT (out), 11 VDD+ (power), 12 CLK OUT (out), 13 CLK IN (in), 14 INT/~{EXT} (in)

## TLC2652AI-14DG4
designator U?
Advanced LinCMOS(TM) Precision Chopper-Stabilized Operational Amplifier, 3.8 to 16 V, -40 to 85 degC, 14-pin SOIC (D14), Green (RoHS & no Sb/Br); Manufacturer: Texas Instruments; PartNumber: TLC2652AI-14DG4; CMRR(Min)(dB): 120; GBW(Typ)(MHz): 1.9; IIB(Max)(pA): 60; Iq per channel(Max)(mA): 2.4; Number of Channels: 1; Offset Drift(Typ)(uV/C): 0.003; Packing: TUBE; Rating: Catalog; Slew Rate(Typ)(V/us): 2.8; Sub Family: Low Offset Voltage Amplifier (<=500uV), Precision Amplifier; Total Supply Voltage(Max)(+5V is 5, +/-5V is 10): 16; Total Supply Voltage(Min)(+5V is 5, +/-5V is 10): 3.8; Vio (25C)(Max)(mV): 0.001; DatasheetVersion: SLOS019E; PackageVersion: 4040047-5/M, 06/2011; PackageReference: D14; PackageDescription: 14-Pin Plastic Small Outline, Body 8.65 x 3.9 mm, Pitch 1.27 mm; Supplier 1: Digi-Key; Supplier Part Number 1: TLC2652AI-14DG4-ND; Supplier 2: Mouser; Supplier Part Number 2: 595-TLC2652AI-14DG4; Eco-Plan: Green (RoHS & no Sb/Br); Mounting Technology: Surface Mount; Code_JEDEC: MS-012; ComponentLink1Description: Manufacturer URL; ComponentLink1URL: http://www.ti.com/; ComponentLink2Description: Datasheet; ComponentLink2URL: http://www.ti.com/lit/ds/symlink/tlc2652a.pdf; ComponentLink3Description: Package Specification; ComponentLink3URL: http://www.ti.com/lit/ml/mpds177g/mpds177g.pdf
footprint TI-D14_N (SOIC, 14-Leads, Body 8.65x3.9mm, Pitch 1.27mm, IPC Medium Density)
footprint TI-D14_L (SOIC, 14-Leads, Body 8.65x3.9mm, Pitch 1.27mm, IPC High Density)
footprint TI-D14_M (SOIC, 14-Leads, Body 8.65x3.9mm, Pitch 1.27mm, IPC Low Density)
pins: 1 CXB, 2 CXA, 3 NC, 4 IN- (in), 5 IN+ (in), 6 NC, 7 VDD- (power), 8 C RETURN (power), 9 CLAMP (out), 10 OUT (out), 11 VDD+ (power), 12 CLK OUT (out), 13 CLK IN (in), 14 INT/~{EXT} (in)

## TLC2652AIN
designator U?
Advanced LinCMOS(TM) Precision Chopper-Stabilized Operational Amplifier, 3.8 to 16 V, -40 to 85 degC, 14-pin DIP (N14), Pb-Free (RoHS); Manufacturer: Texas Instruments; PartNumber: TLC2652AIN; CMRR(Min)(dB): 120; GBW(Typ)(MHz): 1.9; IIB(Max)(pA): 60; Iq per channel(Max)(mA): 2.4; Number of Channels: 1; Offset Drift(Typ)(uV/C): 0.003; Packing: TUBE; Rating: Catalog; Slew Rate(Typ)(V/us): 2.8; Sub Family: Low Offset Voltage Amplifier (<=500uV), Precision Amplifier; Total Supply Voltage(Max)(+5V is 5, +/-5V is 10): 16; Total Supply Voltage(Min)(+5V is 5, +/-5V is 10): 3.8; Vio (25C)(Max)(mV): 0.001; DatasheetVersion: SLOS019E; PackageVersion: 4040049/E, 12/2002; PackageReference: N14; PackageDescription: 14-Pin Plastic In-Line, Body 19.305 x 6.35 mm, Pitch 2.54 mm; Supplier 1: Digi-Key; Supplier Part Number 1: 296-7320-5-ND; Supplier 2: Newark; Supplier Part Number 2: 76C7039; Supplier 3: Mouser; Supplier Part Number 3: 595-TLC2652AIN; Eco-Plan: Pb-Free (RoHS); Mounting Technology: Through Hole; Code_JEDEC: MS-001; ComponentLink1Description: Manufacturer URL; ComponentLink1URL: http://www.ti.com/; ComponentLink2Description: Datasheet; ComponentLink2URL: http://www.ti.com/lit/ds/symlink/tlc2652a.pdf; ComponentLink3Description: Package Specification; ComponentLink3URL: http://www.ti.com/lit/ml/mpdi002c/mpdi002c.pdf
footprint TI-N14 (DIP, 14-Leads, Body 19.305x6.35 mm, Pitch 2.54 mm)
pins: 1 CXB, 2 CXA, 3 NC, 4 IN- (in), 5 IN+ (in), 6 NC, 7 VDD- (power), 8 C RETURN (power), 9 CLAMP (out), 10 OUT (out), 11 VDD+ (power), 12 CLK OUT (out), 13 CLK IN (in), 14 INT/~{EXT} (in)

## TLC2652AINE4
designator U?
Advanced LinCMOS(TM) Precision Chopper-Stabilized Operational Amplifier, 3.8 to 16 V, -40 to 85 degC, 14-pin DIP (N14), Pb-Free (RoHS); Manufacturer: Texas Instruments; PartNumber: TLC2652AINE4; CMRR(Min)(dB): 120; GBW(Typ)(MHz): 1.9; IIB(Max)(pA): 60; Iq per channel(Max)(mA): 2.4; Number of Channels: 1; Offset Drift(Typ)(uV/C): 0.003; Packing: TUBE; Rating: Catalog; Slew Rate(Typ)(V/us): 2.8; Sub Family: Low Offset Voltage Amplifier (<=500uV), Precision Amplifier; Total Supply Voltage(Max)(+5V is 5, +/-5V is 10): 16; Total Supply Voltage(Min)(+5V is 5, +/-5V is 10): 3.8; Vio (25C)(Max)(mV): 0.001; DatasheetVersion: SLOS019E; PackageVersion: 4040049/E, 12/2002; PackageReference: N14; PackageDescription: 14-Pin Plastic In-Line, Body 19.305 x 6.35 mm, Pitch 2.54 mm; Supplier 1: Digi-Key; Supplier Part Number 1: TLC2652AINE4-ND; Supplier 2: Mouser; Supplier Part Number 2: 595-TLC2652AINE4; Eco-Plan: Pb-Free (RoHS); Mounting Technology: Through Hole; Code_JEDEC: MS-001; ComponentLink1Description: Manufacturer URL; ComponentLink1URL: http://www.ti.com/; ComponentLink2Description: Datasheet; ComponentLink2URL: http://www.ti.com/lit/ds/symlink/tlc2652a.pdf; ComponentLink3Description: Package Specification; ComponentLink3URL: http://www.ti.com/lit/ml/mpdi002c/mpdi002c.pdf
footprint TI-N14 (DIP, 14-Leads, Body 19.305x6.35 mm, Pitch 2.54 mm)
pins: 1 CXB, 2 CXA, 3 NC, 4 IN- (in), 5 IN+ (in), 6 NC, 7 VDD- (power), 8 C RETURN (power), 9 CLAMP (out), 10 OUT (out), 11 VDD+ (power), 12 CLK OUT (out), 13 CLK IN (in), 14 INT/~{EXT} (in)

## TLC2652AIP
designator U?
Advanced LinCMOS(TM) Precision Chopper-Stabilized Operational Amplifier, 3.8 to 16 V, -40 to 85 degC, 8-pin DIP (P8), Pb-Free (RoHS); Manufacturer: Texas Instruments; PartNumber: TLC2652AIP; CMRR(Min)(dB): 120; GBW(Typ)(MHz): 1.9; IIB(Max)(pA): 60; Iq per channel(Max)(mA): 2.4; Number of Channels: 1; Offset Drift(Typ)(uV/C): 0.003; Packing: TUBE; Rating: Catalog; Slew Rate(Typ)(V/us): 2.8; Sub Family: Low Offset Voltage Amplifier (<=500uV), Precision Amplifier; Total Supply Voltage(Max)(+5V is 5, +/-5V is 10): 16; Total Supply Voltage(Min)(+5V is 5, +/-5V is 10): 3.8; Vio (25C)(Max)(mV): 0.001; DatasheetVersion: SLOS019E; PackageVersion: 4040082/E, 04/2010; PackageReference: P8; PackageDescription: 8-Pin Plastic In-Line, Body 9.59 x 6.35 mm, Pitch 2.54 mm; Supplier 1: Digi-Key; Supplier Part Number 1: 296-1818-5-ND; Supplier 2: Mouser; Supplier Part Number 2: 595-TLC2652AIP; Eco-Plan: Pb-Free (RoHS); Mounting Technology: Through Hole; Code_JEDEC: MS-001; ComponentLink1Description: Manufacturer URL; ComponentLink1URL: http://www.ti.com/; ComponentLink2Description: Datasheet; ComponentLink2URL: http://www.ti.com/lit/ds/symlink/tlc2652a.pdf; ComponentLink3Description: Package Specification; ComponentLink3URL: http://www.ti.com/litv/pdf/mpdi001b
footprint TI-P8 (DIP, 8-Leads, Body 9.59x6.35mm, Pitch 2.54mm)
pins: 1 CXA, 2 IN- (in), 3 IN+ (in), 4 VDD- (power), 5 CLAMP (out), 6 OUT (out), 7 VDD+ (power), 8 CXB

## TLC2652AIPE4
designator U?
Advanced LinCMOS(TM) Precision Chopper-Stabilized Operational Amplifier, 3.8 to 16 V, -40 to 85 degC, 8-pin DIP (P8), Pb-Free (RoHS); Manufacturer: Texas Instruments; PartNumber: TLC2652AIPE4; CMRR(Min)(dB): 120; GBW(Typ)(MHz): 1.9; IIB(Max)(pA): 60; Iq per channel(Max)(mA): 2.4; Number of Channels: 1; Offset Drift(Typ)(uV/C): 0.003; Packing: TUBE; Rating: Catalog; Slew Rate(Typ)(V/us): 2.8; Sub Family: Low Offset Voltage Amplifier (<=500uV), Precision Amplifier; Total Supply Voltage(Max)(+5V is 5, +/-5V is 10): 16; Total Supply Voltage(Min)(+5V is 5, +/-5V is 10): 3.8; Vio (25C)(Max)(mV): 0.001; DatasheetVersion: SLOS019E; PackageVersion: 4040082/E, 04/2010; PackageReference: P8; PackageDescription: 8-Pin Plastic In-Line, Body 9.59 x 6.35 mm, Pitch 2.54 mm; Supplier 1: Digi-Key; Supplier Part Number 1: TLC2652AIPE4-ND; Supplier 2: Mouser; Supplier Part Number 2: 595-TLC2652AIPE4; Eco-Plan: Pb-Free (RoHS); Mounting Technology: Through Hole; Code_JEDEC: MS-001; ComponentLink1Description: Manufacturer URL; ComponentLink1URL: http://www.ti.com/; ComponentLink2Description: Datasheet; ComponentLink2URL: http://www.ti.com/lit/ds/symlink/tlc2652a.pdf; ComponentLink3Description: Package Specification; ComponentLink3URL: http://www.ti.com/litv/pdf/mpdi001b
footprint TI-P8 (DIP, 8-Leads, Body 9.59x6.35mm, Pitch 2.54mm)
pins: 1 CXA, 2 IN- (in), 3 IN+ (in), 4 VDD- (power), 5 CLAMP (out), 6 OUT (out), 7 VDD+ (power), 8 CXB

## TLC2652C-8D
designator U?
Precision Chopper-Stabilized Operational Amplifier, 3.8 to 16 V, 0 to 70 degC, 8-pin SOIC (D8), Green (RoHS & no Sb/Br); Manufacturer: Texas Instruments; PartNumber: TLC2652C-8D; CMRR(Min)(dB): 120; GBW(Typ)(MHz): 1.9; IIB(Max)(pA): 60; Iq per channel(Max)(mA): 2.4; Number of Channels: 1; Offset Drift(Typ)(uV/C): 0.003; Packing: TUBE; Rating: Catalog; Slew Rate(Typ)(V/us): 2.8; Sub Family: Low Offset Voltage Amplifier (<=500uV), Precision Amplifier; Total Supply Voltage(Max)(+5V is 5, +/-5V is 10): 16; Total Supply Voltage(Min)(+5V is 5, +/-5V is 10): 3.8; DatasheetVersion: SLOS019E; PackageVersion: 4040047-3/M, 06/2011; PackageReference: D8; PackageDescription: 8-Pin Plastic Small Outline, Body 4.9 x 3.9 mm, Pitch 1.27 mm; Supplier 1: Digi-Key; Supplier Part Number 1: 296-7321-5-ND; Supplier 2: Newark; Supplier Part Number 2: 76C7041; Supplier 3: Mouser; Supplier Part Number 3: 595-TLC2652C-8D; Eco-Plan: Green (RoHS & no Sb/Br); Vio (25C)(Max)(mV): 0.003; Mounting Technology: Surface Mount; Code_JEDEC: MS-012; ComponentLink1Description: Manufacturer URL; ComponentLink1URL: http://www.ti.com/; ComponentLink2Description: Datasheet; ComponentLink2URL: http://www.ti.com/lit/ds/symlink/tlc2652.pdf; ComponentLink3Description: Package Specification; ComponentLink3URL: http://www.ti.com/litv/pdf/msoi002j
footprint TI-D8_N (SOIC, 8-Leads, Body 4.9x3.9mm, Pitch 1.27mm, IPC Medium Density)
footprint TI-D8_L (SOIC, 8-Leads, Body 4.9x3.9mm, Pitch 1.27mm, IPC High Density)
footprint TI-D8_M (SOIC, 8-Leads, Body 4.9x3.9mm, Pitch 1.27mm, IPC Low Density)
pins: 1 CXA, 2 IN- (in), 3 IN+ (in), 4 VDD- (power), 5 CLAMP (out), 6 OUT (out), 7 VDD+ (power), 8 CXB

## TLC2652C-8DG4
designator U?
Precision Chopper-Stabilized Operational Amplifier, 3.8 to 16 V, 0 to 70 degC, 8-pin SOIC (D8), Green (RoHS & no Sb/Br); Manufacturer: Texas Instruments; PartNumber: TLC2652C-8DG4; CMRR(Min)(dB): 120; GBW(Typ)(MHz): 1.9; IIB(Max)(pA): 60; Iq per channel(Max)(mA): 2.4; Number of Channels: 1; Offset Drift(Typ)(uV/C): 0.003; Packing: TUBE; Rating: Catalog; Slew Rate(Typ)(V/us): 2.8; Sub Family: Low Offset Voltage Amplifier (<=500uV), Precision Amplifier; Total Supply Voltage(Max)(+5V is 5, +/-5V is 10): 16; Total Supply Voltage(Min)(+5V is 5, +/-5V is 10): 3.8; DatasheetVersion: SLOS019E; PackageVersion: 4040047-3/M, 06/2011; PackageReference: D8; PackageDescription: 8-Pin Plastic Small Outline, Body 4.9 x 3.9 mm, Pitch 1.27 mm; Supplier 1: Digi-Key; Supplier Part Number 1: TLC2652C-8DG4-ND; Supplier 2: Mouser; Supplier Part Number 2: 595-TLC2652C-8DG4; Eco-Plan: Green (RoHS & no Sb/Br); Vio (25C)(Max)(mV): 0.003; Mounting Technology: Surface Mount; Code_JEDEC: MS-012; ComponentLink1Description: Manufacturer URL; ComponentLink1URL: http://www.ti.com/; ComponentLink2Description: Datasheet; ComponentLink2URL: http://www.ti.com/lit/ds/symlink/tlc2652.pdf; ComponentLink3Description: Package Specification; ComponentLink3URL: http://www.ti.com/litv/pdf/msoi002j
footprint TI-D8_N (SOIC, 8-Leads, Body 4.9x3.9mm, Pitch 1.27mm, IPC Medium Density)
footprint TI-D8_L (SOIC, 8-Leads, Body 4.9x3.9mm, Pitch 1.27mm, IPC High Density)
footprint TI-D8_M (SOIC, 8-Leads, Body 4.9x3.9mm, Pitch 1.27mm, IPC Low Density)
pins: 1 CXA, 2 IN- (in), 3 IN+ (in), 4 VDD- (power), 5 CLAMP (out), 6 OUT (out), 7 VDD+ (power), 8 CXB

## TLC2652C-8DR
designator U?
Precision Chopper-Stabilized Operational Amplifier, 3.8 to 16 V, 0 to 70 degC, 8-pin SOIC (D8), Green (RoHS & no Sb/Br); Manufacturer: Texas Instruments; PartNumber: TLC2652C-8DR; CMRR(Min)(dB): 120; GBW(Typ)(MHz): 1.9; IIB(Max)(pA): 60; Iq per channel(Max)(mA): 2.4; Number of Channels: 1; Offset Drift(Typ)(uV/C): 0.003; Packing: LARGE T&R; Rating: Catalog; Slew Rate(Typ)(V/us): 2.8; Sub Family: Low Offset Voltage Amplifier (<=500uV), Precision Amplifier; Total Supply Voltage(Max)(+5V is 5, +/-5V is 10): 16; Total Supply Voltage(Min)(+5V is 5, +/-5V is 10): 3.8; DatasheetVersion: SLOS019E; PackageVersion: 4040047-3/M, 06/2011; PackageReference: D8; PackageDescription: 8-Pin Plastic Small Outline, Body 4.9 x 3.9 mm, Pitch 1.27 mm; Supplier 1: Digi-Key; Supplier Part Number 1: TLC2652C-8DR-ND; Supplier 2: Mouser; Supplier Part Number 2: 595-TLC2652C-8DR; Eco-Plan: Green (RoHS & no Sb/Br); Vio (25C)(Max)(mV): 0.003; Mounting Technology: Surface Mount; Code_JEDEC: MS-012; ComponentLink1Description: Manufacturer URL; ComponentLink1URL: http://www.ti.com/; ComponentLink2Description: Datasheet; ComponentLink2URL: http://www.ti.com/lit/ds/symlink/tlc2652.pdf; ComponentLink3Description: Package Specification; ComponentLink3URL: http://www.ti.com/litv/pdf/msoi002j
footprint TI-D8_N (SOIC, 8-Leads, Body 4.9x3.9mm, Pitch 1.27mm, IPC Medium Density)
footprint TI-D8_L (SOIC, 8-Leads, Body 4.9x3.9mm, Pitch 1.27mm, IPC High Density)
footprint TI-D8_M (SOIC, 8-Leads, Body 4.9x3.9mm, Pitch 1.27mm, IPC Low Density)
pins: 1 CXA, 2 IN- (in), 3 IN+ (in), 4 VDD- (power), 5 CLAMP (out), 6 OUT (out), 7 VDD+ (power), 8 CXB